# Altium schematic symbol library TIP41C.SchLib: 1 symbol
Pins are listed as number, name and electrical type; pins without a type are passive.

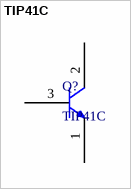
[diagram p0: symbol TIP41C]

## TIP41C
designator Q?
footprint TIP41C (D-PAK, 3-Pads, Body 6.30x6.76mm (max), IPC Medium Density)
pins: 1 E, 2 C, 3 B